# Altium footprint library PowerManagement.PcbLib: 16 footprints
Each footprint in its own frame and in the unit in brackets; x right, y up, seen from the top. Pads: shape width x height; smd on the part's side, far side on the other; paste and mask are expansions set on the pad; w line width, h text height; cw(c..) or ccw(c..) is an arc to the next point about the centre after c.
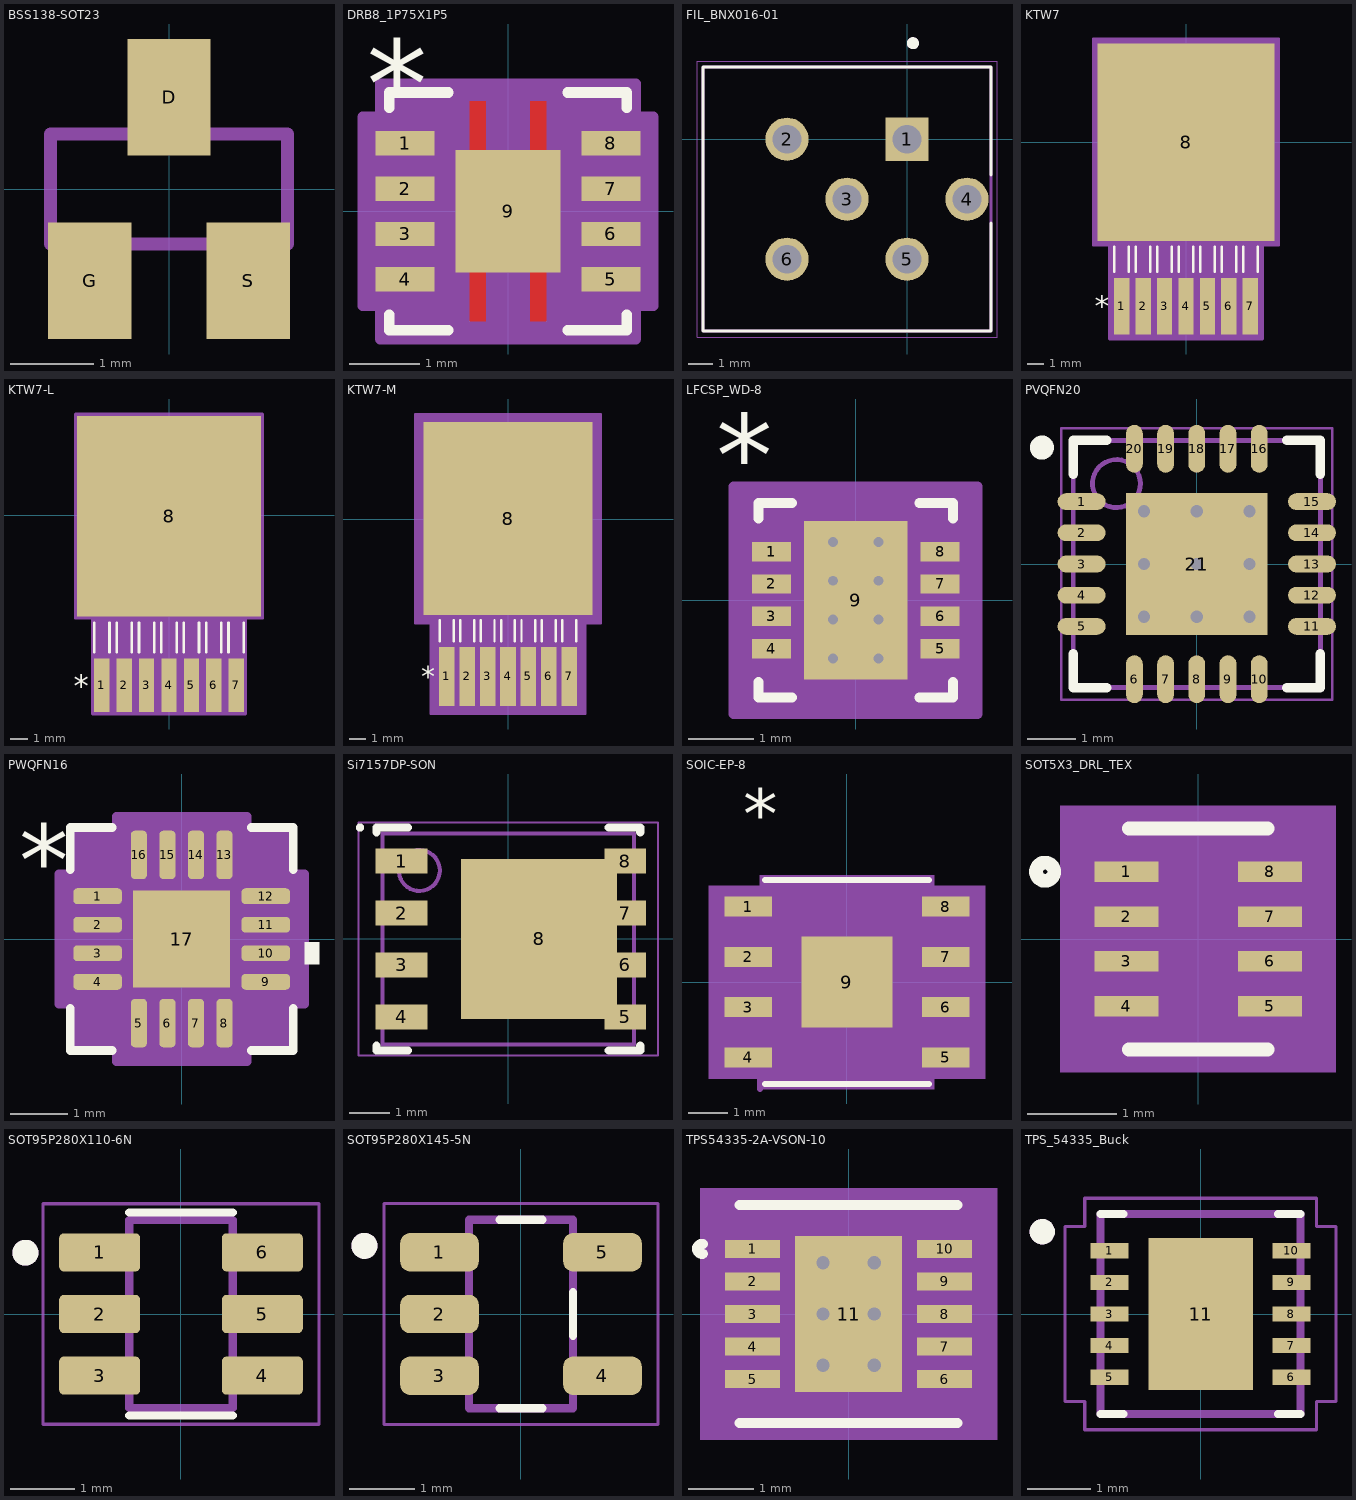
[diagram p0: the footprints below, top view; thin cyan lines are the x and y axes]

## BSS138-SOT23 [mm] "Compact industry standard SOT-23 surface mount"
pads (3):
  rect 1x1.4 smd: D(0,1.1) G(-0.95,-1.1) S(0.95,-1.1)
Mechanical 13:
  region: -1.169,-0.711 -0.711,-0.711 -0.711,-1.296 -1.169,-1.296
  region: 0.712,-0.711 1.168,-0.711 1.168,-1.298 0.712,-1.298
  region: -1.169,-0.711 -0.711,-0.711 -0.711,-1.296 -1.169,-1.296
  region: 0.712,-0.711 1.168,-0.711 1.168,-1.298 0.712,-1.298
  lines w0.152: -1.422,-0.66 -1.422,0.66 ; -1.422,-0.66 1.422,-0.66 ; -1.422,-0.66 -1.422,0.66 ; -1.422,-0.66 1.422,-0.66 ; -1.422,0.66 1.422,0.66 ; -1.422,0.66 1.422,0.66 ; 1.422,-0.66 1.422,0.66 ; 1.422,-0.66 1.422,0.66

## DRB8_1P75X1P5 [mm]
pads (9):
  rect 0.85x0.35 smd paste-0.425 mask+0.05: 1(-1.475,0.975) 2(-1.475,0.325) 3(-1.475,-0.325) 4(-1.475,-0.975) 5(1.475,-0.975) 6(1.475,-0.325) 7(1.475,0.325) 8(1.475,0.975)
  rect 1.5x1.75 smd paste-0.875 mask-0.864: 9(0,0)
Top Layer:
  region: -0.317,-0.875 -0.547,-0.875 -0.547,-1.575 -0.317,-1.575
  region: 0.317,-0.875 0.547,-0.875 0.547,-1.575 0.317,-1.575
  region: 0.317,0.875 0.547,0.875 0.547,1.575 0.317,1.575
  region: -0.317,0.875 -0.547,0.875 -0.547,1.575 -0.317,1.575
  region: 0,-0.875
  region: 0,0.875
Top Overlay:
  lines w0.152: -1.702,-1.483 -1.702,-1.702 -0.854,-1.702 ; -1.702,1.483 -1.702,1.702 -0.854,1.702 ; 0.854,-1.702 1.702,-1.702 1.702,-1.483 ; 0.854,1.702 1.702,1.702 1.702,1.483
  text "*" at -2.026,1.198 h1.27
Top Paste:
  region: 0.675,-0.494 0.241,-0.494 0.1,-0.635 0.1,-0.8 0.675,-0.8
  region: 0.675,0.294 0.241,0.294 0.1,0.152 0.1,-0.152 0.241,-0.294 0.675,-0.294
  region: 0.675,0.8 0.1,0.8 0.1,0.635 0.241,0.494 0.675,0.494
  region: -0.241,-0.494 -0.675,-0.494 -0.675,-0.8 -0.1,-0.8 -0.1,-0.635
  region: -0.241,0.294 -0.675,0.294 -0.675,-0.294 -0.241,-0.294 -0.1,-0.152 -0.1,0.152
  region: -0.1,0.8 -0.675,0.8 -0.675,0.494 -0.241,0.494 -0.1,0.635
  region: -0.368,-0.926 -0.496,-0.926 -0.496,-1.524 -0.368,-1.524
  region: 0.368,-0.926 0.496,-0.926 0.496,-1.524 0.368,-1.524
  region: 0.368,0.926 0.496,0.926 0.496,1.524 0.368,1.524
  region: -0.368,0.926 -0.496,0.926 -0.496,1.524 -0.368,1.524
  region: 0,-0.875
  region: 0,0.875
  region: 1.875,1.125 1.075,1.125 1.075,0.825 1.875,0.825
  region: 1.875,0.475 1.075,0.475 1.075,0.175 1.875,0.175
  region: 1.875,-0.175 1.075,-0.175 1.075,-0.475 1.875,-0.475
  region: 1.875,-0.825 1.075,-0.825 1.075,-1.125 1.875,-1.125
  region: -1.075,-0.825 -1.875,-0.825 -1.875,-1.125 -1.075,-1.125
  region: -1.075,-0.175 -1.875,-0.175 -1.875,-0.475 -1.075,-0.475
  region: -1.075,0.475 -1.875,0.475 -1.875,0.175 -1.075,0.175
  region: -1.075,1.125 -1.875,1.125 -1.875,0.825 -1.075,0.825
Top Solder:
  region: 0.2,-0.938 0.2,0.938 0.814,0.938 0.814,-0.938
  region: -0.814,-0.938 -0.814,0.938 -0.2,0.938 -0.2,-0.938
  region: -0.814,-0.938 -0.814,-0.594 0.814,-0.594 0.814,-0.938
  region: -0.814,-0.194 -0.814,0.194 0.814,0.194 0.814,-0.194
  region: -0.814,0.594 -0.814,0.938 0.814,0.938 0.814,0.594
  region: -0.317,-0.875 -0.547,-0.875 -0.547,-1.575 -0.317,-1.575
  region: 0.317,-0.875 0.547,-0.875 0.547,-1.575 0.317,-1.575
  region: 0.317,0.875 0.547,0.875 0.547,1.575 0.317,1.575
  region: -0.317,0.875 -0.547,0.875 -0.547,1.575 -0.317,1.575
  region: 0,-0.875
  region: 0,0.875
  region: 1.97,1.22 0.98,1.22 0.98,0.73 1.97,0.73
  region: 1.97,0.57 0.98,0.57 0.98,0.08 1.97,0.08
  region: 1.97,-0.08 0.98,-0.08 0.98,-0.57 1.97,-0.57
  region: 1.97,-0.73 0.98,-0.73 0.98,-1.22 1.97,-1.22
  region: -0.98,-0.73 -1.97,-0.73 -1.97,-1.22 -0.98,-1.22
  region: -0.98,-0.08 -1.97,-0.08 -1.97,-0.57 -0.98,-0.57
  region: -0.98,0.57 -1.97,0.57 -1.97,0.08 -0.98,0.08
  region: -0.98,1.22 -1.97,1.22 -1.97,0.73 -0.98,0.73
Mechanical 13:
  lines w0: -0.305,1.575 ccw(c0,1.575) 0.305,1.575
  lines w0.025: -1.575,-1.575 -1.575,1.575 1.575,1.575 1.575,-1.575 -1.575,-1.575 ; -1.575,-1.16 -1.575,-0.79 -1.575,-1.16 ; -1.575,-0.51 -1.575,-0.14 -1.575,-0.51 ; -1.575,0.14 -1.575,0.51 -1.575,0.14 ; -1.575,0.79 -1.575,1.16 -1.575,0.79 ; 1.575,-1.16 1.575,-0.79 1.575,-1.16 ; 1.575,-0.51 1.575,-0.14 1.575,-0.51 ; 1.575,0.14 1.575,0.51 1.575,0.14 ; 1.575,0.79 1.575,1.16 1.575,0.79
  text "*" at -1.639,0.055 h1.27
Mechanical 15:
  region: -1.829,-1.351 -2.134,-1.351 -2.134,1.351 -1.829,1.351 -1.829,1.829 1.829,1.829 1.829,1.351 2.134,1.351 2.134,-1.351 1.829,-1.351 1.829,-1.829 -1.829,-1.829
  lines w0.152: -2.083,-1.351 -1.829,-1.351 -1.829,-1.829 1.829,-1.829 1.829,-1.351 2.083,-1.351 2.083,1.351 1.829,1.351 1.829,1.829 -1.829,1.829 -1.829,1.351 -2.083,1.351 -2.083,-1.351
Mechanical 16:
  circle w0.127: c0,0.394 r0.191
  circle w0.127: c0,-0.394 r0.191
3D body: height 0.25, standoff 0, extent 0,0 0.254,0.254

## FIL_BNX016-01 [mm] "6 pin Through Hole EMI Filter"
pads (6):
  rect 1.8x1.8 hole 1.2: 1(0,0)
  round 1.8 hole 1.2: 2(-5,0) 3(-2.5,-2.5) 4(2.5,-2.5) 5(0,-5) 6(-5,-5)
Top Overlay:
  circle w0.3: c0.25,4 r0.1
  lines w0.127: 3.5,-3.5 3.5,-8 -8.5,-8 -8.5,3 3.5,3 3.5,-1.5
Mechanical 13:
  circle w0.3: c0.25,4 r0.1
  circle w0.3: c0.25,4 r0.1
  lines w0.127: -8.5,-8 3.5,-8 ; -8.5,-8 -8.5,3 ; -8.5,-8 3.5,-8 ; -8.5,-8 -8.5,3 ; -8.5,3 3.5,3 ; -8.5,3 3.5,3 ; 3.5,-8 3.5,3 ; 3.5,-8 3.5,3
Mechanical 15:
  lines w0.05: -8.75,-8.25 3.75,-8.25 3.75,3.25 -8.75,3.25 -8.75,-8.25

## KTW7 [mil]
pads (8):
  rect 36x132 smd paste+0 mask+0: 1(-150,-382) 2(-100,-382) 3(-50,-382) 4(0,-382) 5(50,-382) 6(100,-382) 7(150,-382)
  rect 412x460 smd paste+0 mask+0: 8(0,0)
Top Overlay:
  lines w6: -167,-302 -167,-243.1 ; -133,-302 -133,-243.1 ; -117,-302 -117,-243.1 ; -83,-302 -83,-243.1 ; -67,-302 -67,-243.1 ; -33,-302 -33,-243.1 ; -17,-302 -17,-243.1 ; 17,-302 17,-243.1 ; 33,-302 33,-243.1 ; 67,-302 67,-243.1 ; 83,-302 83,-243.1 ; 117,-302 117,-243.1 ; 133,-302 133,-243.1 ; 167,-302 167,-243.1
  text "*" at -212.5,-407 h50
Mechanical 13:
  lines w1: -205,-216 205,-216 205,216 -205,216 -205,-216 ; -167,-434 -167,-216 -133,-216 -133,-434 -167,-434 ; -117,-434 -117,-216 -83,-216 -83,-434 -117,-434 ; -67,-434 -67,-216 -33,-216 -33,-434 -67,-434 ; -17,-434 -17,-216 17,-216 17,-434 -17,-434 ; 33,-434 33,-216 67,-216 67,-434 33,-434 ; 83,-434 83,-216 117,-216 117,-434 83,-434 ; 133,-434 133,-216 167,-216 167,-434 133,-434
  text "*" at -162.5,-231 h50
Mechanical 15:
  region: -178,-240 -216,-240 -216,240 216,240 216,-240 178,-240 178,-458 -178,-458
  lines w6: -216,-240 -216,240 216,240 216,-240 178,-240 178,-458 -178,-458 -178,-240 -216,-240
3D body: height 10, standoff 0, extent 0,0 10,10

## KTW7-L [mil]
pads (8):
  rect 34x120 smd paste+0 mask+0: 1(-150,-380) 2(-100,-380) 3(-50,-380) 4(0,-380) 5(50,-380) 6(100,-380) 7(150,-380)
  rect 410x448 smd paste+0 mask+0: 8(0,-2)
Top Overlay:
  lines w6: -167,-306 -167,-240 ; -133,-306 -133,-240 ; -117,-306 -117,-240 ; -83,-306 -83,-240 ; -67,-306 -67,-240 ; -33,-306 -33,-240 ; -17,-306 -17,-240 ; 17,-306 17,-240 ; 33,-306 33,-240 ; 67,-306 67,-240 ; 83,-306 83,-240 ; 117,-306 117,-240 ; 133,-306 133,-240 ; 167,-306 167,-240
  text "*" at -212.5,-405 h50
Mechanical 13:
  lines w1: -205,-216 205,-216 205,216 -205,216 -205,-216 ; -167,-434 -167,-216 -133,-216 -133,-434 -167,-434 ; -117,-434 -117,-216 -83,-216 -83,-434 -117,-434 ; -67,-434 -67,-216 -33,-216 -33,-434 -67,-434 ; -17,-434 -17,-216 17,-216 17,-434 -17,-434 ; 33,-434 33,-216 67,-216 67,-434 33,-434 ; 83,-434 83,-216 117,-216 117,-434 83,-434 ; 133,-434 133,-216 167,-216 167,-434 133,-434
  text "*" at -162.5,-231 h50
Mechanical 15:
  region: -171,-230 -209,-230 -209,226 209,226 209,-230 171,-230 171,-444 -171,-444
  lines w6: -209,-230 -209,226 209,226 209,-230 171,-230 171,-444 -171,-444 -171,-230 -209,-230
3D body: height 10, standoff 0, extent 0,0 10,10

## KTW7-M [mil]
pads (8):
  rect 38x144 smd paste+0 mask+0: 1(-150,-384) 2(-100,-384) 3(-50,-384) 4(0,-384) 5(50,-384) 6(100,-384) 7(150,-384)
  rect 414x472 smd paste+0 mask+0: 8(0,2)
Top Overlay:
  lines w6: -167,-298 -167,-247.1 ; -133,-298 -133,-247.1 ; -117,-298 -117,-247.1 ; -83,-298 -83,-247.1 ; -67,-298 -67,-247.1 ; -33,-298 -33,-247.1 ; -17,-298 -17,-247.1 ; 17,-298 17,-247.1 ; 33,-298 33,-247.1 ; 67,-298 67,-247.1 ; 83,-298 83,-247.1 ; 117,-298 117,-247.1 ; 133,-298 133,-247.1 ; 167,-298 167,-247.1
  text "*" at -212.5,-409 h50
Mechanical 13:
  lines w1: -205,-216 -205,216 205,216 205,-216 -205,-216 ; -167,-434 -133,-434 -133,-216 -167,-216 -167,-434 ; -117,-434 -83,-434 -83,-216 -117,-216 -117,-434 ; -67,-434 -33,-434 -33,-216 -67,-216 -67,-434 ; -17,-434 17,-434 17,-216 -17,-216 -17,-434 ; 33,-434 67,-434 67,-216 33,-216 33,-434 ; 83,-434 117,-434 117,-216 83,-216 83,-434 ; 133,-434 167,-434 167,-216 133,-216 133,-434
  text "*" at -162.5,-231 h50
Mechanical 15:
  region: -189,-254 -227,-254 -227,258 227,258 227,-254 189,-254 189,-476 -189,-476
  lines w6: -227,-254 -189,-254 -189,-476 189,-476 189,-254 227,-254 227,258 -227,258 -227,-254
3D body: height 10, standoff 0, extent 0,0 10,10

## LFCSP_WD-8 [mm] "CP_8_21, ADM7172"
pads (9):
  rect 0.6x0.3 smd mask+0.025: 1(-1.3,0.75) 2(-1.3,0.25) 3(-1.3,-0.25) 4(-1.3,-0.75) 5(1.3,-0.75) 6(1.3,-0.25) 7(1.3,0.25) 8(1.3,0.75)
  rect 1.6x2.44 smd mask+0.025: 9(0,0)
via 0.35,-0.9 diameter 0.305 hole 0.152
via -0.35,-0.9 diameter 0.305 hole 0.152
via 0.35,-0.3 diameter 0.305 hole 0.152
via -0.35,-0.3 diameter 0.305 hole 0.152
via 0.35,0.3 diameter 0.305 hole 0.152
via -0.35,0.3 diameter 0.305 hole 0.152
via 0.35,0.9 diameter 0.305 hole 0.152
via -0.35,0.9 diameter 0.305 hole 0.152
Top Overlay:
  lines w0.152: -1.5,-1.258 -1.5,-1.5 -0.98,-1.5 ; -1.5,1.258 -1.5,1.5 -0.98,1.5 ; 0.98,-1.5 1.5,-1.5 1.5,-1.258 ; 0.98,1.5 1.5,1.5 1.5,1.258
  text "*" at -2.15,1.6 h1.27
Top Paste:
  region: 0.8,1.22 -0.8,1.22 -0.8,-1.22 0.8,-1.22
Mechanical 13:
  lines w0: -0.305,1.5 ccw(c0,1.5) 0.305,1.5
  lines w0.025: -1.5,-1.5 1.5,-1.5 1.5,1.5 -1.5,1.5 -1.5,-1.5
Mechanical 15:
  region: 1.881,-1.754 -1.881,-1.754 -1.881,1.754 1.881,1.754
  lines w0.152: -1.881,-1.754 -1.881,1.754 1.881,1.754 1.881,-1.754 -1.881,-1.754
3D body: height 0.25, standoff 0, extent 0,0 0.254,0.254

## PVQFN20 [mm] "PQFN, 20-Leads, Body 5.00x5.00mm, Pitch 0.65mm, Thermal Pad 2.95x2.95mm, IPC Medium Density"
height 1
pads (21):
  oval 1x0.35 smd mask+0.07: 1(-2.4,1.3) 2(-2.4,0.65) 3(-2.4,0) 4(-2.4,-0.65) 5(-2.4,-1.3) 11(2.4,-1.3) 12(2.4,-0.65) 13(2.4,0) 14(2.4,0.65) 15(2.4,1.3)
  oval 0.35x1 smd mask+0.07: 6(-1.3,-2.4) 7(-0.65,-2.4) 8(0,-2.4) 9(0.65,-2.4) 10(1.3,-2.4) 16(1.3,2.4) 17(0.65,2.4) 18(0,2.4) 19(-0.65,2.4) 20(-1.3,2.4)
  rect 2.95x2.95 smd: 21(0,0)
via 1.1,-1.1 diameter 0.559 hole 0.254
via 0,-1.1 diameter 0.559 hole 0.254
via -1.1,-1.1 diameter 0.559 hole 0.254
via 1.1,0 diameter 0.559 hole 0.254
via 0,0 diameter 0.559 hole 0.254
via -1.1,0 diameter 0.559 hole 0.254
via 1.1,1.1 diameter 0.559 hole 0.254
via -1.1,1.1 diameter 0.559 hole 0.254
via 0,1.1 diameter 0.559 hole 0.254
Top Overlay:
  circle w0.25: c-3.225,2.425 r0.125
  lines w0.2: -2.575,-1.875 -2.575,-2.575 -1.875,-2.575 ; -2.575,1.875 -2.575,2.575 -1.875,2.575 ; 1.875,-2.575 2.575,-2.575 2.575,-1.875 ; 1.875,2.575 2.575,2.575 2.575,1.875
Mechanical 13:
  circle w0.1: c-1.675,1.675 r0.5
  lines w0.1: -2.575,-2.575 2.575,-2.575 2.575,2.575 -2.575,2.575 -2.575,-2.575
Mechanical 15:
  lines w0.05: -2.825,-2.825 2.825,-2.825 2.825,2.825 -2.825,2.825 -2.825,-2.825
  lines w0.1: -0.5,0 0.5,0 ; 0,-0.5 0,0.5
3D body: height 1, standoff 0.2, extent -2.575,-2.575 2.575,2.575

## PWQFN16 [mm] "RTE (S-PWQFN-N16), TPS54319"
pads (17):
  rrect50% 0.85x0.28 smd mask+0.051: 1(-1.475,0.75) 2(-1.475,0.25) 3(-1.475,-0.25) 4(-1.475,-0.75) 9(1.475,-0.75) 10(1.475,-0.25) 11(1.475,0.25) 12(1.475,0.75)
  rrect50% 0.28x0.85 smd mask+0.051: 5(-0.75,-1.475) 6(-0.25,-1.475) 7(0.25,-1.475) 8(0.75,-1.475) 13(0.75,1.475) 14(0.25,1.475) 15(-0.25,1.475) 16(-0.75,1.475)
  rect 1.7x1.7 smd mask+0.05: 17(0,0)
Top Overlay:
  region: 2.154,-0.059 2.408,-0.059 2.408,-0.44 2.154,-0.44
  lines w0.152: -1.956,-1.218 -1.956,-1.956 -1.218,-1.956 ; -1.956,1.218 -1.956,1.956 -1.218,1.956 ; 1.218,-1.956 1.956,-1.956 1.956,-1.218 ; 1.218,1.956 1.956,1.956 1.956,1.218
  text "*" at -2.852,0.746 h1.27
Top Paste:
  region: 0.827,-0.494 0.635,-0.494 0.494,-0.635 0.494,-0.827 0.827,-0.827
  region: 0.827,0.294 0.635,0.294 0.494,0.152 0.494,-0.152 0.635,-0.294 0.827,-0.294
  region: 0.827,0.827 0.494,0.827 0.494,0.635 0.635,0.494 0.827,0.494
  region: 0.152,-0.494 -0.152,-0.494 -0.294,-0.635 -0.294,-0.827 0.294,-0.827 0.294,-0.635
  region: 0.152,0.294 -0.152,0.294 -0.294,0.152 -0.294,-0.152 -0.152,-0.294 0.152,-0.294 0.294,-0.152 0.294,0.152
  region: 0.294,0.827 -0.294,0.827 -0.294,0.635 -0.152,0.494 0.152,0.494 0.294,0.635
  region: -0.635,-0.494 -0.827,-0.494 -0.827,-0.827 -0.494,-0.827 -0.494,-0.635
  region: -0.635,0.294 -0.827,0.294 -0.827,-0.294 -0.635,-0.294 -0.494,-0.152 -0.494,0.152
  region: -0.494,0.827 -0.827,0.827 -0.827,0.494 -0.635,0.494 -0.494,0.635
  region: -0.635,1.875 -0.865,1.875 -0.865,1.075 -0.635,1.075
  region: -0.135,1.875 -0.365,1.875 -0.365,1.075 -0.135,1.075
  region: 0.365,1.875 0.135,1.875 0.135,1.075 0.365,1.075
  region: 0.865,1.875 0.635,1.875 0.635,1.075 0.865,1.075
  region: 1.875,0.865 1.075,0.865 1.075,0.635 1.875,0.635
  region: 1.875,0.365 1.075,0.365 1.075,0.135 1.875,0.135
  region: 1.875,-0.135 1.075,-0.135 1.075,-0.365 1.875,-0.365
  region: 1.875,-0.635 1.075,-0.635 1.075,-0.865 1.875,-0.865
  region: 0.865,-1.075 0.635,-1.075 0.635,-1.875 0.865,-1.875
  region: 0.365,-1.075 0.135,-1.075 0.135,-1.875 0.365,-1.875
  region: -0.135,-1.075 -0.365,-1.075 -0.365,-1.875 -0.135,-1.875
  region: -0.635,-1.075 -0.865,-1.075 -0.865,-1.875 -0.635,-1.875
  region: -1.075,-0.635 -1.875,-0.635 -1.875,-0.865 -1.075,-0.865
  region: -1.075,-0.135 -1.875,-0.135 -1.875,-0.365 -1.075,-0.365
  region: -1.075,0.365 -1.875,0.365 -1.875,0.135 -1.075,0.135
  region: -1.075,0.865 -1.875,0.865 -1.875,0.635 -1.075,0.635
Mechanical 13:
  lines w0.025: -1.575,0.305 -0.305,1.575 ; -1.575,-1.575 -1.575,1.575 1.575,1.575 1.575,-1.575 -1.575,-1.575
Mechanical 15:
  region: -1.144,-1.829 -1.829,-1.829 -1.829,-1.144 -2.154,-1.144 -2.154,1.144 -1.829,1.144 -1.829,1.829 -1.144,1.829 -1.144,2.154 1.144,2.154 1.144,1.829 1.829,1.829 1.829,1.144 2.154,1.144 2.154,-1.144 1.829,-1.144 1.829,-1.829 1.144,-1.829 1.144,-2.154 -1.144,-2.154
  lines w0.152: -2.154,-1.144 -2.154,1.144 -1.829,1.144 -1.829,1.829 -1.144,1.829 -1.144,2.154 1.144,2.154 1.144,1.829 1.829,1.829 1.829,1.144 2.154,1.144 2.154,-1.144 1.829,-1.144 1.829,-1.829 1.144,-1.829 1.144,-2.154 -1.144,-2.154 -1.144,-1.829 -1.829,-1.829 -1.829,-1.144 -2.154,-1.144
Mechanical 16:
  circle w0.127: c0.394,0.394 r0.191
  circle w0.127: c0.394,-0.394 r0.191
  circle w0.127: c-0.394,0.394 r0.191
  circle w0.127: c-0.394,-0.394 r0.191
3D body: height 0.25, standoff 0, extent 0,0 0.254,0.254

## Si7157DP-SON [mm] "SON, 8-Leads, Body 5.15x6.15mm, Pitch 1.27mm, Thermal Pad 3.98x3.66mm, IPC Medium Density"
height 1.12
pads (9):
  rect 1.27x0.61 smd: 1(-2.608,1.905) 2(-2.608,0.635) 3(-2.608,-0.635) 4(-2.608,-1.905)
  rect 1.02x0.61 smd: 5(2.858,-1.905) 6(2.858,-0.635) 7(2.858,0.635) 8(2.858,1.905)
  rect 3.81x3.91 smd: 8(0.753,0)
Top Overlay:
  circle w0.1: c-3.625,2.725 r0.05
  lines w0.2: -3.225,-2.61 -3.225,-2.725 -2.455,-2.725 ; -3.225,2.61 -3.225,2.725 -2.455,2.725 ; 2.455,-2.725 3.225,-2.725 3.225,-2.61 ; 2.455,2.725 3.225,2.725 3.225,2.61
Top Paste:
  rectangle: -0.51,-0.565 0.51,0.565
Mechanical 13:
  circle w0.1: c-2.175,1.675 r0.5
  lines w0.1: -3.075,-2.575 3.075,-2.575 3.075,2.575 -3.075,2.575 -3.075,-2.575
Mechanical 15:
  lines w0.05: -3.66,-2.85 3.66,-2.85 3.66,2.85 -3.66,2.85 -3.66,-2.85
  lines w0.1: -0.5,0 0.5,0 ; 0,-0.5 0,0.5
3D body: height 1.12, standoff 0.28, extent -3.075,-2.575 3.075,2.575

## SOIC-EP-8 [mm] "RD-8-1, ADP7118"
pads (9):
  rect 1.2x0.51 smd: 1(-2.5,1.905) 2(-2.5,0.635) 3(-2.5,-0.635) 4(-2.5,-1.905) 5(2.5,-1.905) 6(2.5,-0.635) 7(2.5,0.635) 8(2.5,1.905)
  rect 2.29x2.29 smd paste-1.132: 9(0,0)
Top Overlay:
  lines w0.152: -2.077,-2.577 2.077,-2.577 ; -2.077,2.577 2.077,2.577
  text "*" at -2.619,3.609 h1.27
Top Paste:
  region: 1.145,1.145 -1.145,1.145 -1.145,-1.145 1.145,-1.145
Mechanical 13:
  lines w0: -0.305,2.45 ccw(c0,2.45) 0.305,2.45
  lines w0.025: -3.1,-2.16 -3.1,-1.65 -1.95,-1.65 -1.95,-2.16 -3.1,-2.16 ; -3.1,-0.89 -3.1,-0.38 -1.95,-0.38 -1.95,-0.89 -3.1,-0.89 ; -3.1,0.38 -3.1,0.89 -1.95,0.89 -1.95,0.38 -3.1,0.38 ; -3.1,1.65 -3.1,2.16 -1.95,2.16 -1.95,1.65 -3.1,1.65 ; -1.95,-2.45 1.95,-2.45 1.95,2.45 -1.95,2.45 -1.95,-2.45 ; 1.95,-2.16 1.95,-1.65 3.1,-1.65 3.1,-2.16 1.95,-2.16 ; 1.95,-0.89 1.95,-0.38 3.1,-0.38 3.1,-0.89 1.95,-0.89 ; 1.95,0.38 1.95,0.89 3.1,0.89 3.1,0.38 1.95,0.38 ; 1.95,1.65 1.95,2.16 3.1,2.16 3.1,1.65 1.95,1.65
  text "*" at -1.569,2.374 h1.27
Mechanical 15:
  region: -2.204,-2.439 -3.5,-2.439 -3.5,2.439 -2.204,2.439 -2.204,2.704 2.204,2.704 2.204,2.439 3.5,2.439 3.5,-2.439 2.204,-2.439 2.204,-2.704 -2.204,-2.704
  lines w0.152: -2.204,-2.704 -2.204,-2.439
3D body: height 0.25, standoff 0, extent 0,0 0.254,0.254

## SOT5X3_DRL_TEX [mil] "TPS563212"
pads (8):
  rect 28x9 smd paste+0 mask+0: 1(-31.5,29.54) 2(-31.5,9.85) 3(-31.5,-9.85) 4(-31.5,-29.54) 5(31.5,-29.54) 6(31.5,-9.85) 7(31.5,9.85) 8(31.5,29.54)
Top Overlay:
  circle w6: c-67.19,29.54 r4
  lines w6: -30.5,-48.5 30.5,-48.5 ; -30.5,48.5 30.5,48.5
Mechanical 5:
  region: 60.5,-58.5 -60.5,-58.5 -60.5,58.5 60.5,58.5
Mechanical 13:
  circle w0: c-17.5,29.54 r3
  lines w0: -12,43.5 ccw(c0,43.5) 12,43.5
  lines w1: -25.5,-43.5 -25.5,43.5 25.5,43.5 25.5,-43.5 -25.5,-43.5
Mechanical 15:
  region: -35.5,-44.03 -55.5,-44.03 -55.5,44.03 -35.5,44.03 -35.5,53.5 35.5,53.5 35.5,44.03 55.5,44.03 55.5,-44.03 35.5,-44.03 35.5,-53.5 -35.5,-53.5
  lines w6: -55.5,-44.03 -35.5,-44.03 -35.5,-53.5 35.5,-53.5 35.5,-44.03 55.5,-44.03 55.5,44.03 35.5,44.03 35.5,53.5 -35.5,53.5 -35.5,44.03 -55.5,44.03 -55.5,-44.03
3D body "SOT5X3_DRL_TEX.step": height 24.09, standoff 0, extent -33.5,-43.5 33.5,43.5

## SOT95P280X110-6N [mm] "TPS563201DDCR"
pads (6):
  rrect25% 1.25x0.59 smd mask+0.07: 1(-1.255,0.95) 2(-1.255,0) 3(-1.255,-0.95) 4(1.255,-0.95) 5(1.255,0) 6(1.255,0.95)
Top Overlay:
  circle w0.2: c-2.4,0.946 r0.1
  lines w0.127: -0.8,-1.565 0.8,-1.565 ; -0.8,1.565 0.8,1.565
Mechanical 13:
  circle w0.2: c-2.4,0.946 r0.1
  lines w0.127: -0.8,-1.45 0.8,-1.45 0.8,1.45 -0.8,1.45 -0.8,-1.45
Mechanical 15:
  lines w0.05: -2.13,-1.7 2.13,-1.7 2.13,1.7 -2.13,1.7 -2.13,-1.7
3D body "step_temp.STEP": height 1.1, standoff 0, extent -1.4,-1.45 1.4,1.45

## SOT95P280X145-5N [mm] "TPS7A02XXDBV"
pads (5):
  rrect50% 1.21x0.59 smd mask+0.051: 1(-1.255,0.95) 2(-1.255,0) 3(-1.255,-0.95) 4(1.255,-0.95) 5(1.255,0.95)
Top Overlay:
  circle w0.2: c-2.41,1.05 r0.1
  lines w0.127: -0.33,-1.45 0.33,-1.45 ; -0.33,1.45 0.33,1.45 ; 0.8,-0.335 0.8,0.335
Mechanical 13:
  circle w0.2: c-2.41,1.05 r0.1
  lines w0.127: -0.8,-1.45 -0.8,1.45 0.8,1.45 0.8,-1.45 -0.8,-1.45
Mechanical 15:
  lines w0.05: -2.11,-1.7 2.11,-1.7 2.11,1.7 -2.11,1.7 -2.11,-1.7

## TPS54335-2A-VSON-10 [mm] "TPS54335-2A-VSON"
height 1
pads (11):
  rect 0.85x0.28 smd mask+0.025: 1(-1.475,1) 2(-1.475,0.5) 3(-1.475,0) 4(-1.475,-0.5) 5(-1.475,-1) 6(1.475,-1) 7(1.475,-0.5) 8(1.475,0) 9(1.475,0.5) 10(1.475,1)
  rect 1.65x2.4 smd paste-1.187 mask-1.181: 11(0,0)
via 0.394,-0.787 diameter 0.508 hole 0.203
via -0.394,-0.787 diameter 0.508 hole 0.203
via 0.394,0 diameter 0.508 hole 0.203
via -0.394,0 diameter 0.508 hole 0.203
via -0.394,0.787 diameter 0.508 hole 0.203
via 0.394,0.787 diameter 0.508 hole 0.203
Top Layer:
  region: 0,1.2
  region: 0,-1.2
Top Overlay:
  lines w0.152: -2.233,0.926 cw(c-2.252,1) -2.233,1.074 ; -1.677,-1.677 1.677,-1.677 ; -1.677,1.677 1.677,1.677
Top Paste:
  region: -0.494,1.125 -0.75,1.125 -0.75,0.887 -0.635,0.887 -0.494,1.029
  region: -0.635,0.687 -0.75,0.687 -0.75,0.1 -0.635,0.1 -0.494,0.241 -0.494,0.546
  region: -0.635,-0.1 -0.75,-0.1 -0.75,-0.687 -0.635,-0.687 -0.494,-0.546 -0.494,-0.241
  region: -0.635,-0.887 -0.75,-0.887 -0.75,-1.125 -0.494,-1.125 -0.494,-1.029
  region: 0.294,1.125 -0.294,1.125 -0.294,1.029 -0.152,0.887 0.152,0.887 0.294,1.029
  region: 0.152,0.687 -0.152,0.687 -0.294,0.546 -0.294,0.241 -0.152,0.1 0.152,0.1 0.294,0.241 0.294,0.546
  region: 0.152,-0.1 -0.152,-0.1 -0.294,-0.241 -0.294,-0.546 -0.152,-0.687 0.152,-0.687 0.294,-0.546 0.294,-0.241
  region: 0.152,-0.887 -0.152,-0.887 -0.294,-1.029 -0.294,-1.125 0.294,-1.125 0.294,-1.029
  region: 0.75,1.125 0.494,1.125 0.494,1.029 0.635,0.887 0.75,0.887
  region: 0.75,0.687 0.635,0.687 0.494,0.546 0.494,0.241 0.635,0.1 0.75,0.1
  region: 0.75,-0.1 0.635,-0.1 0.494,-0.241 0.494,-0.546 0.635,-0.687 0.75,-0.687
  region: 0.75,-0.887 0.635,-0.887 0.494,-1.029 0.494,-1.125 0.75,-1.125
Top Solder:
  region: -0.888,0.987 -0.888,1.264 0.888,1.264 0.888,0.987
  region: -0.888,0.2 -0.888,0.587 0.888,0.587 0.888,0.2
  region: -0.888,-0.587 -0.888,-0.2 0.888,-0.2 0.888,-0.587
  region: -0.888,-1.264 -0.888,-0.987 0.888,-0.987 0.888,-1.264
  region: -0.888,-1.264 -0.888,1.264 -0.594,1.264 -0.594,-1.264
  region: 0.194,-1.264 0.194,1.264 -0.194,1.264 -0.194,-1.264
  region: 0.594,-1.264 0.594,1.264 0.888,1.264 0.888,-1.264
  region: 0,1.2
  region: 0,-1.2
Mechanical 5:
  region: 2.281,-1.931 -2.281,-1.931 -2.281,1.931 2.281,1.931
Mechanical 13:
  circle w0: c-1.05,1 r0.076
  lines w0: -0.305,1.55 ccw(c0,1.55) 0.305,1.55
  lines w0.025: -1.55,-1.55 1.55,-1.55 1.55,1.55 -1.55,1.55 -1.55,-1.55
Mechanical 15:
  region: -1.804,-1.394 -2.154,-1.394 -2.154,1.394 -1.804,1.394 -1.804,1.804 1.804,1.804 1.804,1.394 2.154,1.394 2.154,-1.394 1.804,-1.394 1.804,-1.804 -1.804,-1.804
  lines w0.152: -2.154,-1.394 -2.154,1.394 -1.804,1.394 -1.804,1.804 1.804,1.804 1.804,1.394 2.154,1.394 2.154,-1.394 1.804,-1.394 1.804,-1.804 -1.804,-1.804 -1.804,-1.394 -2.154,-1.394
3D body: height 0.25, standoff 0, extent 0,0 0.254,0.254

## TPS_54335_Buck [mm] "TPS_54335_Buck"
pads (11):
  rect 0.6x0.24 smd mask+0.038: 1(-1.435,1) 2(-1.435,0.5) 3(-1.435,0) 4(-1.435,-0.5) 5(-1.435,-1) 6(1.435,-1) 7(1.435,-0.5) 8(1.435,0) 9(1.435,0.5) 10(1.435,1)
  rect 1.65x2.4 smd paste-10 mask+0.025: 11(0,0)
Top Overlay:
  circle w0.2: c-2.5,1.3 r0.1
  lines w0.127: -1.58,-1.58 -1.22,-1.58 ; -1.58,1.58 -1.22,1.58 ; 1.22,-1.58 1.58,-1.58 ; 1.22,1.58 1.58,1.58
Top Paste:
  region: -0.75,1.16 0.75,1.16 0.75,0.1 -0.75,0.1
  region: -0.75,-0.1 0.75,-0.1 0.75,-1.35 -0.75,-1.35
Mechanical 13:
  circle w0.2: c-2.5,1.3 r0.1
  circle w0.2: c-2.5,1.3 r0.1
  lines w0.127: -1.58,-1.58 1.58,-1.58 ; -1.58,-1.58 -1.58,1.58 ; -1.58,-1.58 1.58,-1.58 ; -1.58,-1.58 -1.58,1.58 ; -1.58,1.58 1.58,1.58 ; -1.58,1.58 1.58,1.58 ; 1.58,-1.58 1.58,1.58 ; 1.58,-1.58 1.58,1.58
Mechanical 15:
  lines w0.05: -2.14,-1.38 -1.83,-1.38 -1.83,-1.83 1.83,-1.83 1.83,-1.38 2.14,-1.38 2.14,1.38 1.83,1.38 1.83,1.83 -1.83,1.83 -1.83,1.38 -2.14,1.38 -2.14,-1.38